# EAGLE library part LSI2096VL (library lattice)
LATTICE PROGRAMMABLE DEVICE
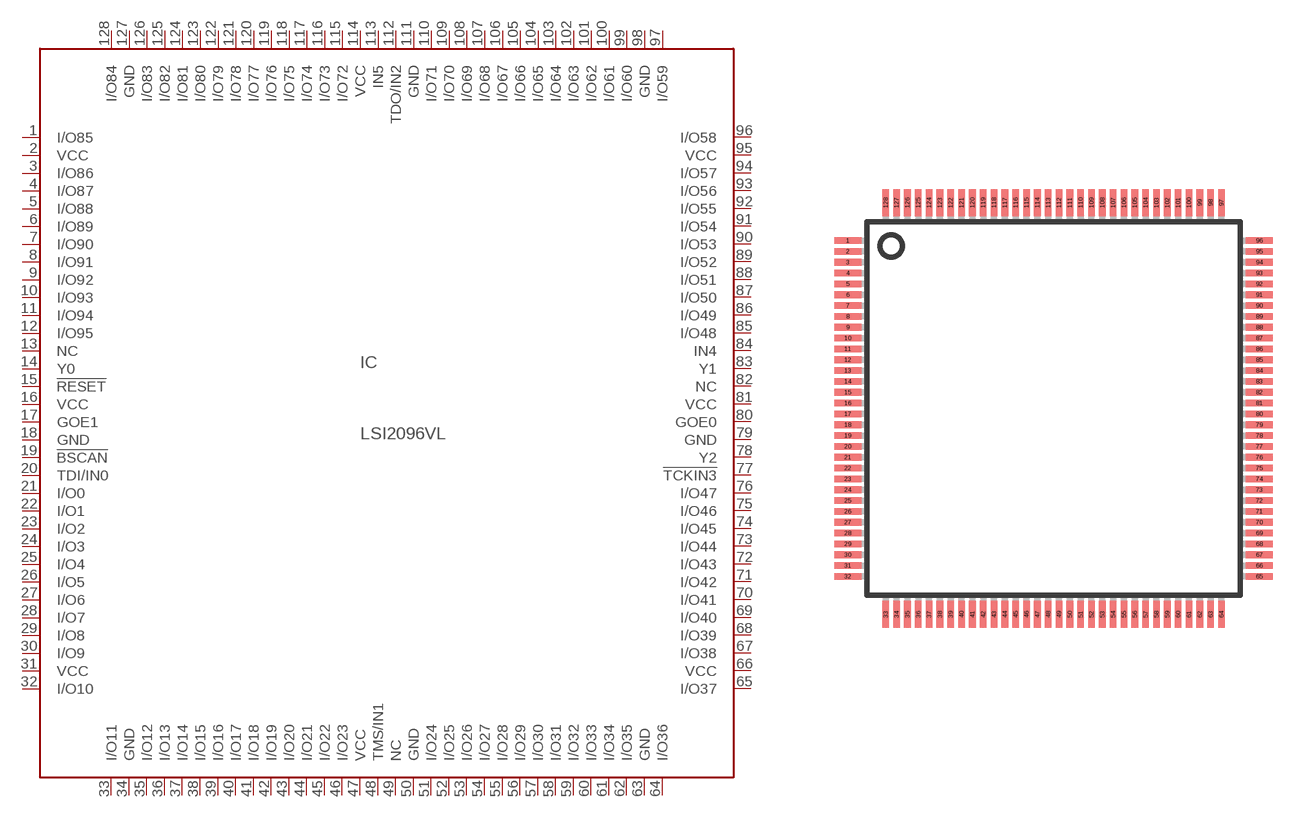
[diagram p27: symbol with the pads of TQFP128; footprint TQFP128]

Designator prefix IC

## LSI2096VL (OC_FARNELL: unknown; OC_NEWARK: unknown)  [TQFP128]
1  I/O85
2  VCC  pwr
3  I/O86
4  I/O87
5  I/O88
6  I/O89
7  I/O90
8  I/O91
9  I/O92
10  I/O93
11  I/O94
12  I/O95
13  NC  nc
14  Y0  in
15  !RESET  in
16  VCC  pwr
17  GOE1  in
18  GND  pwr
19  !BSCAN  in
20  TDI/IN0  in
21  I/O0
22  I/O1
23  I/O2
24  I/O3
25  I/O4
26  I/O5
27  I/O6
28  I/O7
29  I/O8
30  I/O9
31  VCC  pwr
32  I/O10
33  I/O11
34  GND  pwr
35  I/O12
36  I/O13
37  I/O14
38  I/O15
39  I/O16
40  I/O17
41  I/O18
42  I/O19
43  I/O20
44  I/O21
45  I/O22
46  I/O23
47  VCC  pwr
48  TMS/IN1  in
49  NC  nc
50  GND  pwr
51  I/O24
52  I/O25
53  I/O26
54  I/O27
55  I/O28
56  I/O29
57  I/O30
58  I/O31
59  I/O32
60  I/O33
61  I/O34
62  I/O35
63  GND  pwr
64  I/O36
65  I/O37
66  VCC  pwr
67  I/O38
68  I/O39
69  I/O40
70  I/O41
71  I/O42
72  I/O43
73  I/O44
74  I/O45
75  I/O46
76  I/O47
77  !TCKIN3  in
78  Y2  in
79  GND  pwr
80  GOE0  in
81  VCC  pwr
82  NC  nc
83  Y1  in
84  IN4  in
85  I/O48
86  I/O49
87  I/O50
88  I/O51
89  I/O52
90  I/O53
91  I/O54
92  I/O55
93  I/O56
94  I/O57
95  VCC  pwr
96  I/O58
97  I/O59
98  GND  pwr
99  I/O60
100  I/O61
101  I/O62
102  I/O63
103  I/O64
104  I/O65
105  I/O66
106  I/O67
107  I/O68
108  I/O69
109  I/O70
110  I/O71
111  GND  pwr
112  TDO/IN2
113  IN5  in
114  VCC  pwr
115  I/O72
116  I/O73
117  I/O74
118  I/O75
119  I/O76
120  I/O77
121  I/O78
122  I/O79
123  I/O80
124  I/O81
125  I/O82
126  I/O83
127  GND  pwr
128  I/O84

## Footprint TQFP128 (pad centres in mm)
Thin Quad Flat Package
smd 1 x 0.25: 1 -7.6,6.2; 2 -7.6,5.8; 3 -7.6,5.4; 4 -7.6,5; 5 -7.6,4.6; 6 -7.6,4.2; 7 -7.6,3.8; 8 -7.6,3.4; 9 -7.6,3; 10 -7.6,2.6; 11 -7.6,2.2; 12 -7.6,1.8; 13 -7.6,1.4; 14 -7.6,1; 15 -7.6,0.6; 16 -7.6,0.2; 17 -7.6,-0.2; 18 -7.6,-0.6; 19 -7.6,-1; 20 -7.6,-1.4; 21 -7.6,-1.8; 22 -7.6,-2.2; 23 -7.6,-2.6; 24 -7.6,-3; 25 -7.6,-3.4; 26 -7.6,-3.8; 27 -7.6,-4.2; 28 -7.6,-4.6; 29 -7.6,-5; 30 -7.6,-5.4; 31 -7.6,-5.8; 32 -7.6,-6.2; 65 7.6,-6.2; 66 7.6,-5.8; 67 7.6,-5.4; 68 7.6,-5; 69 7.6,-4.6; 70 7.6,-4.2; 71 7.6,-3.8; 72 7.6,-3.4; 73 7.6,-3; 74 7.6,-2.6; 75 7.6,-2.2; 76 7.6,-1.8; 77 7.6,-1.4; 78 7.6,-1; 79 7.6,-0.6; 80 7.6,-0.2; 81 7.6,0.2; 82 7.6,0.6; 83 7.6,1; 84 7.6,1.4; 85 7.6,1.8; 86 7.6,2.2; 87 7.6,2.6; 88 7.6,3; 89 7.6,3.4; 90 7.6,3.8; 91 7.6,4.2; 92 7.6,4.6; 93 7.6,5; 94 7.6,5.4; 95 7.6,5.8; 96 7.6,6.2
smd 0.25 x 1: 33 -6.2,-7.6; 34 -5.8,-7.6; 35 -5.4,-7.6; 36 -5,-7.6; 37 -4.6,-7.6; 38 -4.2,-7.6; 39 -3.8,-7.6; 40 -3.4,-7.6; 41 -3,-7.6; 42 -2.6,-7.6; 43 -2.2,-7.6; 44 -1.8,-7.6; 45 -1.4,-7.6; 46 -1,-7.6; 47 -0.6,-7.6; 48 -0.2,-7.6; 49 0.2,-7.6; 50 0.6,-7.6; 51 1,-7.6; 52 1.4,-7.6; 53 1.8,-7.6; 54 2.2,-7.6; 55 2.6,-7.6; 56 3,-7.6; 57 3.4,-7.6; 58 3.8,-7.6; 59 4.2,-7.6; 60 4.6,-7.6; 61 5,-7.6; 62 5.4,-7.6; 63 5.8,-7.6; 64 6.2,-7.6; 97 6.2,7.6; 98 5.8,7.6; 99 5.4,7.6; 100 5,7.6; 101 4.6,7.6; 102 4.2,7.6; 103 3.8,7.6; 104 3.4,7.6; 105 3,7.6; 106 2.6,7.6; 107 2.2,7.6; 108 1.8,7.6; 109 1.4,7.6; 110 1,7.6; 111 0.6,7.6; 112 0.2,7.6; 113 -0.2,7.6; 114 -0.6,7.6; 115 -1,7.6; 116 -1.4,7.6; 117 -1.8,7.6; 118 -2.2,7.6; 119 -2.6,7.6; 120 -3,7.6; 121 -3.4,7.6; 122 -3.8,7.6; 123 -4.2,7.6; 124 -4.6,7.6; 125 -5,7.6; 126 -5.4,7.6; 127 -5.8,7.6; 128 -6.2,7.6